# Altium footprint library CA_2917_H31.PcbLib: 1 footprints
Each footprint in its own frame and in the unit in brackets; x right, y up, seen from the top. Pads: shape width x height; smd on the part's side, far side on the other; paste and mask are expansions set on the pad; w line width, h text height; cw(c..) or ccw(c..) is an arc to the next point about the centre after c.
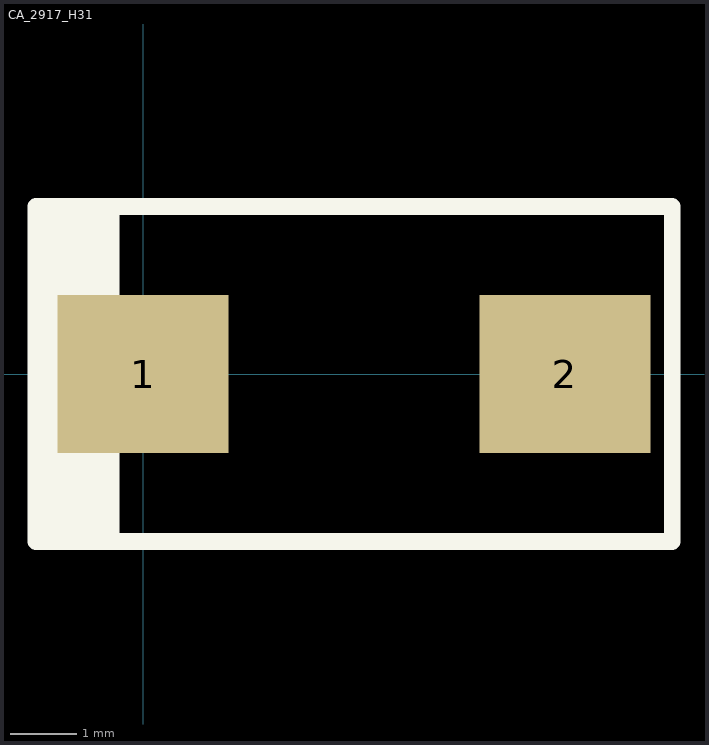
[diagram p0: the footprint, top view; thin cyan lines are the x and y axes]

## CA_2917_H31 [mm] "Body 7.3 x 4.3 mm (LxW typ), EIA 7343-31"
height 3.1
pads (2):
  rect 2.6x2.4 smd: 1(0,0) 2(6.4,0)
Top Overlay:
  rectangle: -1.626,-2.54 -0.356,2.54
  lines w0.254: -0.102,0 0.406,0 ; 0.152,-0.254 0.152,0.254 ; -1.626,-2.54 8.026,-2.54 8.026,2.54 -1.372,2.54 -1.626,2.54 -1.626,-2.54
3D body: height 3.1, standoff -0.04, extent -1.293,-2.305 7.703,2.305